# Altium footprint library DAB_EE365.PcbLib: 25 footprints (part 1 of 2)
Each footprint in its own frame and in the unit in brackets; x right, y up, seen from the top. Pads: shape width x height; smd on the part's side, far side on the other; paste and mask are expansions set on the pad; w line width, h text height; cw(c..) or ccw(c..) is an arc to the next point about the centre after c.
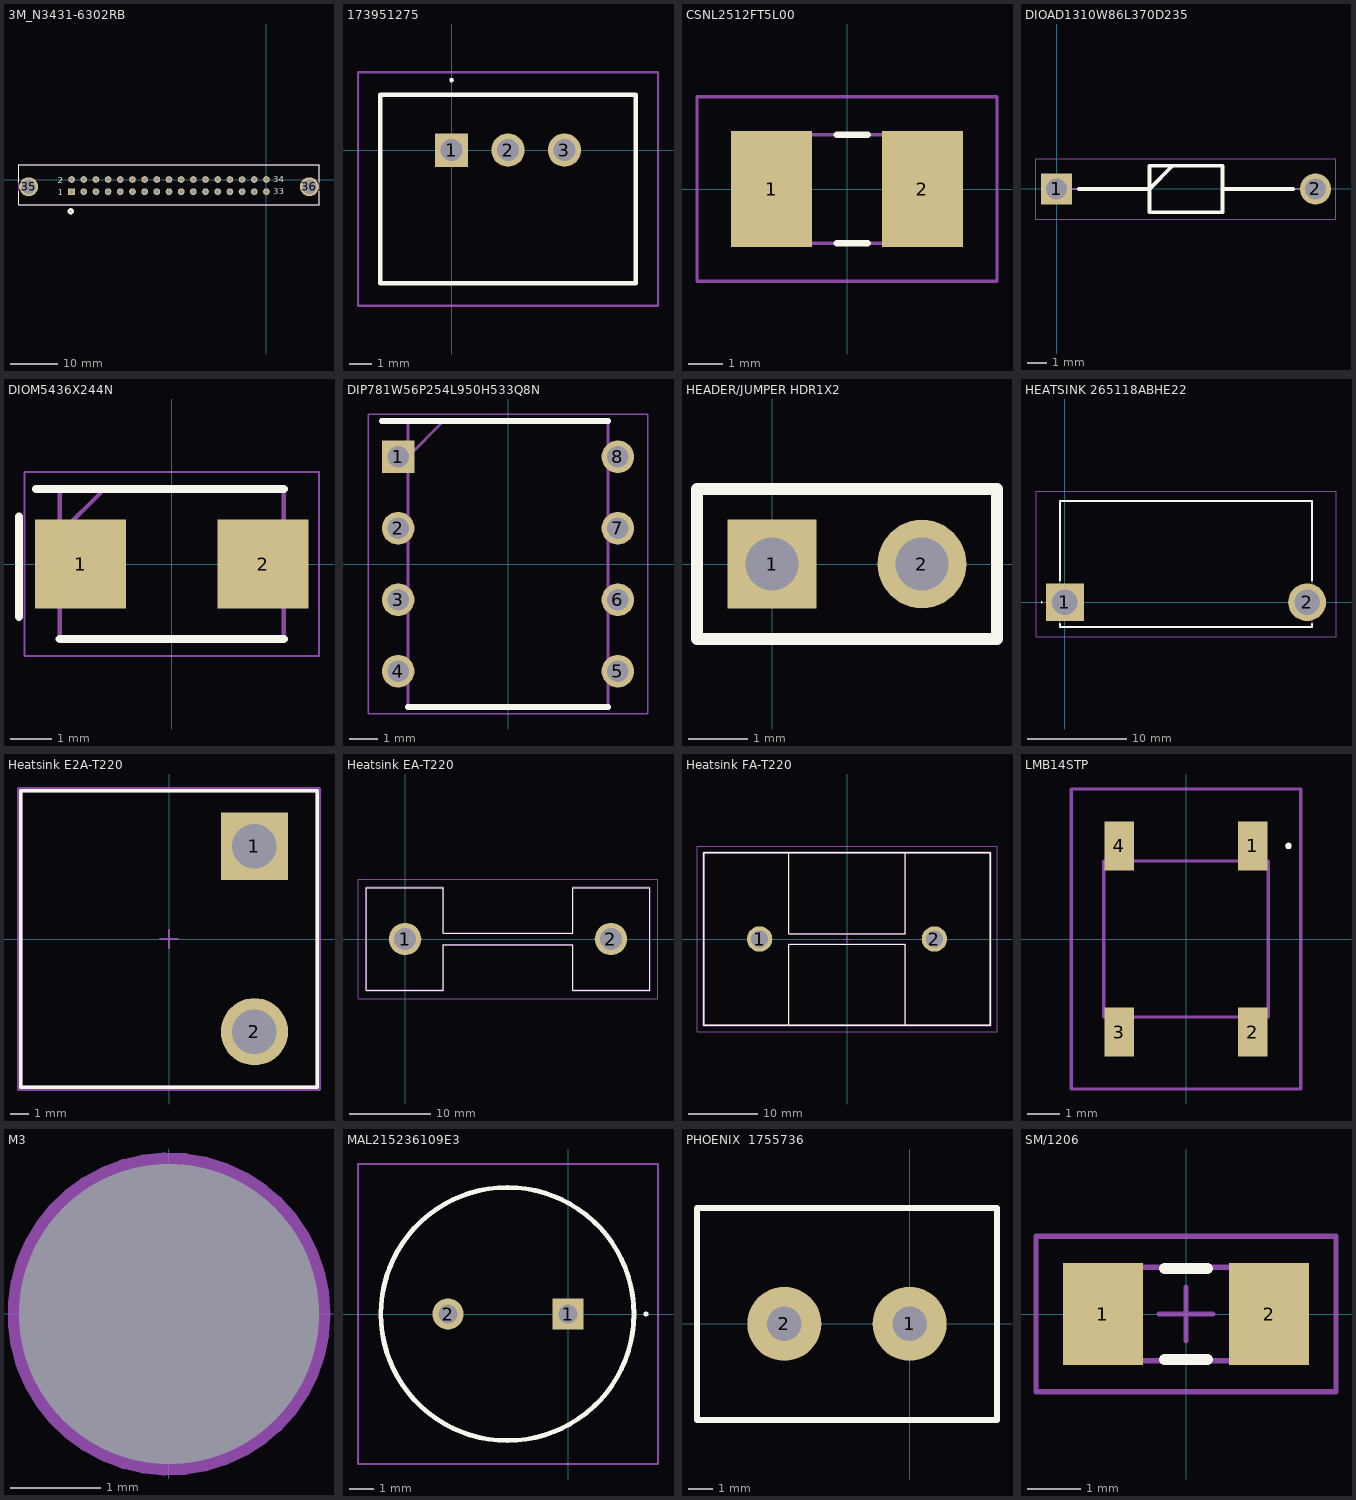
[diagram p0: the footprints below, top view; thin cyan lines are the x and y axes]

## 3M_N3431-6302RB [mil]
pads (36):
  rect 55x55 hole 35 mask+4.02: 1(-1600,-100)
  round 55 hole 35 mask+4.02: 2(-1600,0) 3(-1500,-100) 4(-1500,0) 5(-1400,-100) 6(-1400,0) 7(-1300,-100) 8(-1300,0) 9(-1200,-100) 10(-1200,0) 11(-1100,-100) 12(-1100,0) 13(-1000,-100) 14(-1000,0) 15(-900,-100) 16(-900,0) 17(-800,-100) 18(-800,0) 19(-700,-100) 20(-700,0) 21(-600,-100) 22(-600,0) 23(-500,-100) 24(-500,0) 25(-400,-100) 26(-400,0) 27(-300,-100) 28(-300,0) 29(-200,-100) 30(-200,0) 31(-100,-100) 32(-100,0) 33(0,-100) 34(0,0)
  round 156 hole 116 mask+4.02: 35(-1953,-60) 36(353,-60)
Top Overlay:
  lines w6: -2032,-97 -2032,-207 432,-207 432,-97 ; -2032,-23 -2032,120 432,120 432,-23
  lines w20: -1622,-261 ccw(c-1607,-261) -1592,-261 ccw(c-1607,-261) -1622,-261
  text "1" at -1711.75,-129.06 h50.02
  text "2" at -1712.2,-29.02 h50.03
  text "33" at 55.03,-121.07 h50.03
  text "34" at 55.04,-21.02 h50.04
Mechanical 13:
  lines w6: -2032,-207 432,-207 432,120 -2032,120 -2032,-207
  lines w20: -1622,-261 ccw(c-1607,-261) -1592,-261 ccw(c-1607,-261) -1622,-261
  text "1" at -1714.07,-129.23 h50.09
  text "2" at -1711.54,-29.01 h50.02
  text "33" at 55.09,-121.21 h50.09
  text "34" at 55.04,-21.02 h50.04
3D body "step_temp.STEP": height 1069, standoff -123, extent -2030,-215 430,125

## 173951275 [mm]
height 0.6
pads (3):
  rect 1.5x1.5 hole 1: 1(0,0)
  round 1.5 hole 1: 2(2.54,0) 3(5.08,0)
Top Overlay:
  lines w0.1: 0,3.1 cw(c0,3.15) 0,3.2 cw(c0,3.15) 0,3.1
  lines w0.2: -3.21,-6 8.29,-6 8.29,2.5 -3.21,2.5 -3.21,-6
Mechanical 13:
  lines w0.1: -3.21,-6 8.29,-6 8.29,2.5 -3.21,2.5 -3.21,-6
Mechanical 15:
  lines w0.1: -4.21,-7 9.29,-7 9.29,3.5 -4.21,3.5 -4.21,-7
3D body "173951275.stp": height 17.5, standoff -4.1, extent -3.21,-6.5 8.29,2.5

## CSNL2512FT5L00 [mm]
height 0.6
pads (2):
  rect 2.38x3.4 smd: 1(-2.21,0) 2(2.21,0)
Top Overlay:
  lines w0.2: -0.3,-1.59 0.6,-1.59 ; -0.3,1.59 0.6,1.59
Mechanical 13:
  lines w0.1: -3.175,-1.59 -3.175,1.59 3.175,1.59 3.175,-1.59 -3.175,-1.59
Mechanical 15:
  lines w0.1: -4.4,-2.7 -4.4,2.7 4.4,2.7 4.4,-2.7 -4.4,-2.7
3D body "CSNL2512FT5L00.stp": height 0.35, standoff 0, extent -3.174,-1.586 3.176,1.594

## DIOAD1310W86L370D235 [mm]
pads (2):
  rect 1.575x1.575 hole 1.05: 1(0,0)
  round 1.575 hole 1.05: 2(13.1,0)
Top Overlay:
  lines w0.2: 1.138,0 4.7,0 5.875,1.175 ; 8.4,0 11.962,0 ; 4.7,-1.175 8.4,-1.175 8.4,1.175 4.7,1.175 4.7,-1.175
Mechanical 13:
  lines w0.1: 0,0 4.7,0 5.875,1.175 ; 8.4,0 13.1,0 ; 4.7,-1.175 8.4,-1.175 8.4,1.175 4.7,1.175 4.7,-1.175
Mechanical 15:
  lines w0.05: -1.038,-1.525 14.137,-1.525 14.137,1.525 -1.038,1.525 -1.038,-1.525
3D body "1N4750A-TR.stp": height 2.6, standoff -2.6, extent -0.43,-1.291 13.53,1.291

## DIOM5436X244N [mm]
height 0.6
pads (2):
  rect 2.2x2.15 smd: 1(-2.2,0) 2(2.2,0)
Top Overlay:
  lines w0.2: -3.683,-1.27 -3.683,1.143 ; -3.275,1.81 2.7,1.81 ; -2.7,-1.81 2.7,-1.81
Mechanical 13:
  lines w0.1: -2.7,0.735 -1.625,1.81 ; -2.7,-1.81 -2.7,1.81 2.7,1.81 2.7,-1.81 -2.7,-1.81
Mechanical 15:
  lines w0.05: -3.55,-2.22 -3.55,2.22 3.55,2.22 3.55,-2.22 -3.55,-2.22
3D body "P6SMB33A-Q.stp": height 2.31, standoff 0, extent -2.7,-1.81 2.7,1.81

## DIP781W56P254L950H533Q8N [mm]
height 0.6
pads (8):
  rect 1.159x1.159 hole 0.759: 1(-3.905,3.81)
  round 1.159 hole 0.759: 2(-3.905,1.27) 3(-3.905,-1.27) 4(-3.905,-3.81) 5(3.905,-3.81) 6(3.905,-1.27) 7(3.905,1.27) 8(3.905,3.81)
Top Overlay:
  lines w0.2: -4.485,5.08 3.556,5.08 ; -3.556,-5.08 3.556,-5.08
Mechanical 13:
  lines w0.1: -3.556,3.81 -2.286,5.08 ; -3.556,-5.08 -3.556,5.08 3.556,5.08 3.556,-5.08 -3.556,-5.08
Mechanical 15:
  lines w0.05: -4.957,-5.33 -4.957,5.33 4.957,5.33 4.957,-5.33 -4.957,-5.33
3D body "MCP6241-E_P.stp": height 5.33, standoff -3.5, extent -4.045,-4.75 4.045,4.75

## HEADER/JUMPER HDR1X2 [mm] "Connector; Header; 2 Position"
pads (2):
  rect 1.5x1.5 hole 0.9: 1(0,0)
  round 1.5 hole 0.9: 2(2.54,0)
Top Overlay:
  lines w0.2: -1.27,-1.27 -1.27,1.27 3.81,1.27 3.81,-1.27 -1.27,-1.27

## HEATSINK 265118ABHE22 [mm]
pads (2):
  rect 3.81x3.81 hole 2.54: 1(0,0)
  round 3.81 hole 2.54: 2(24.4,0)
Top Overlay:
  lines w0.1: -2.4,0 cw(c-2.35,0) -2.3,0 cw(c-2.35,0) -2.4,0
  lines w0.2: -0.5,-2.2 -0.5,-2.5 24.9,-2.5 24.9,-2.2 ; -0.5,2.2 -0.5,10.2 24.9,10.2 24.9,2.2
Mechanical 13:
  lines w0.1: -0.5,-2.5 -0.5,10.2 24.9,10.2 24.9,-2.5 -0.5,-2.5
Mechanical 15:
  lines w0.1: -2.905,-3.5 -2.905,11.2 27.305,11.2 27.305,-3.5 -2.905,-3.5
3D body "265-118ABHE-22.stp": height 30.1, standoff -5, extent -1.161,-2.5 25.57,10.2

## Heatsink E2A-T220 [mm]
height 19.3
pads (2):
  rect 3.7x3.7 hole 2.45 paste-2539.97 mask+0: 1(4.7,5.1)
  round 3.7 hole 2.45 paste-2539.97 mask+0: 2(4.7,-5.1)
Top Overlay:
  lines w0.2: -8.15,-8.15 -8.15,8.15 8.15,8.15 8.15,-8.15 -8.15,-8.15
Top 3D Body:
  lines w0.2: -8.15,-8.15 -8.15,8.15 8.15,8.15 8.15,-8.15 -8.15,-8.15
Top Courtyard:
  lines w0.2: -8.25,-8.25 -8.25,8.25 8.25,8.25 8.25,-8.25 -8.25,-8.25
Top Assembly:
  lines w0.2: -8.25,-8.25 -8.25,8.25 8.25,8.25 8.25,-8.25 -8.25,-8.25
  text ".Designator" at 0,0 h1
Top Component Center:
  lines w0.1: -0.5,0 0.5,0 ; 0,-0.5 0,0.5
3D body "UNK_Ohmite_E2A-T220-25E_eec.STEP": height 0.25, standoff 0, extent -8.25,-8.25 8.25,8.25

## Heatsink EA-T220 [mm]
pads (2):
  round 4.005 hole 2.67: 1(0,0) 2(25.4,0)
Top Overlay:
  lines w0.1: -4.8,-6.35 4.7,-6.35 4.7,-0.7 20.7,-0.7 20.7,-6.35 30.2,-6.35 30.2,6.35 20.7,6.35 20.7,0.7 4.7,0.7 4.7,6.35 -4.8,6.35 -4.8,-6.35
Mechanical 13:
  lines w0.2: -4.8,-6.35 4.7,-6.35 4.7,-0.7 20.7,-0.7 20.7,-6.35 30.2,-6.35 30.2,6.35 20.7,6.35 20.7,0.7 4.7,0.7 4.7,6.35 -4.8,6.35 -4.8,-6.35
Mechanical 15:
  lines w0.1: -5.8,-7.35 -5.8,7.35 31.2,7.35 31.2,-7.35 -5.8,-7.35
3D body "EA-T220-38E.stp": height 38.45, standoff -5, extent -4.8,-6.35 30.2,6.35

## Heatsink FA-T220 [mm]
pads (2):
  round 3.7 hole 2.45 paste-2539.97 mask+0: 1(-12.7,0) 2(12.7,0)
Top Overlay:
  lines w0.1: -20.8,-12.5 -8.5,-12.5 -8.5,-0.75 8.5,-0.75 8.5,-12.5 20.8,-12.5 20.8,12.5 8.5,12.5 8.5,0.75 -8.5,0.75 -8.5,12.5 -20.8,12.5 -20.8,-12.5
  lines w0.2: -20.8,-12.5 20.8,-12.5 20.8,12.5 -20.8,12.5 -20.8,-12.5
Top 3D Body:
  lines w0.2: -20.8,-12.5 20.8,-12.5 20.8,12.5 -20.8,12.5 -20.8,-12.5
Top Courtyard:
  lines w0.2: -20.9,-12.6 20.9,-12.6 20.9,12.6 -20.9,12.6 -20.9,-12.6
Top Assembly:
  lines w0.2: -20.9,-12.6 20.9,-12.6 20.9,12.6 -20.9,12.6 -20.9,-12.6
  text ".Designator" at 0,0 h1
Mechanical 13:
  lines w0.2: -20.8,-12.5 -8.5,-12.5 -8.5,-0.75 8.5,-0.75 8.5,-12.5 20.8,-12.5 20.8,12.5 8.5,12.5 8.5,0.75 -8.5,0.75 -8.5,12.5 -20.8,12.5 -20.8,-12.5
Mechanical 15:
  lines w0.1: -21.8,-13.5 -21.8,13.5 21.8,13.5 21.8,-13.5 -21.8,-13.5
Top Component Center:
  lines w0.1: -0.5,0 0.5,0 ; 0,-0.5 0,0.5
3D body "UNK_Ohmite_FA-T220-25E_eec.STEP": height 0.25, standoff 0, extent -20.9,-12.6 20.9,12.6

## LMB14STP [mm]
height 0.6
pads (4):
  rect 0.9x1.5 smd: 1(2.05,2.86) 2(2.05,-2.86) 3(-2.05,-2.86) 4(-2.05,2.86)
Top Overlay:
  lines w0.1: 3.1,2.86 ccw(c3.15,2.86) 3.2,2.86 ccw(c3.15,2.86) 3.1,2.86
Mechanical 13:
  lines w0.1: -2.525,-2.4 -2.525,2.4 2.525,2.4 2.525,-2.4 -2.525,-2.4
Mechanical 15:
  lines w0.1: -3.525,-4.61 -3.525,4.61 3.525,4.61 3.525,-4.61 -3.525,-4.61

## M3 [mil] "M3 - Hole"
pads (1):
  round 60 hole 129.92: ""(0,0)
Mechanical 1:
  circle w10: c0,0 r65

## MAL215236109E3 [mm]
height 0.6
pads (2):
  rect 1.3x1.3 hole 0.8: 1(0,0)
  round 1.3 hole 0.8: 2(-5,0)
Top Overlay:
  lines w0.1: 3.2,0 ccw(c3.25,0) 3.3,0 ccw(c3.25,0) 3.2,0
  lines w0.2: -7.8,0 ccw(c-2.525,0) 2.75,0 ccw(c-2.525,0) -7.8,0
Mechanical 13:
  lines w0.1: -7.75,0 ccw(c-2.5,0) 2.75,0 ccw(c-2.5,0) -7.75,0
Mechanical 15:
  lines w0.1: -8.75,-6.25 3.75,-6.25 3.75,6.25 -8.75,6.25 -8.75,-6.25
3D body "MAL215236109E3.stp": height 22.1, standoff -5, extent -7.75,-5.238 2.75,5.238

## PHOENIX  1755736 [mm]
height 19.3
pads (2):
  round 3 hole 1.4: 1(0,0) 2(-5.08,0)
Top Overlay:
  lines w0.254: -8.62,-3.9 3.54,-3.9 3.54,4.7 -8.62,4.7 -8.62,-3.9
3D body "1755736.stp": height 12.01, standoff -3.89, extent -8.636,-3.919 3.524,4.681

## SM/1206 [mm]
height 19.3
pads (2):
  rect 1.5x1.9 smd: 1(-1.55,0) 2(1.55,0)
Top Overlay:
  lines w0.2: -0.4,-0.85 0.4,-0.85 ; -0.4,0.85 0.4,0.85
Mechanical 13:
  lines w0.1: -1.675,-0.875 1.675,-0.875 1.675,0.875 -1.675,0.875 -1.675,-0.875
Mechanical 15:
  lines w0.1: -0.5,0 0.5,0 ; 0,-0.5 0,0.5 ; -2.8,-1.45 2.8,-1.45 2.8,1.45 -2.8,1.45 -2.8,-1.45
3D body: height 0.71, standoff 0, extent -1.675,-0.875 1.675,0.875